# Altium schematic symbol library SCH - DRIVER - LED - TI TPS61100_PW_20.SchLib: 1 symbol
Pins are listed as number, name and electrical type; pins without a type are passive.

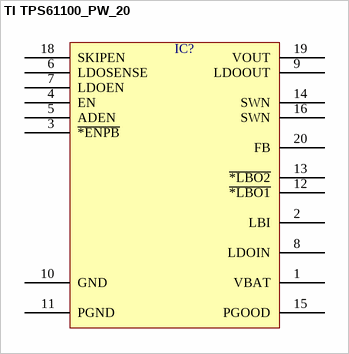
[diagram p0: symbol TI TPS61100_PW_20]

## TI TPS61100_PW_20
designator IC?  (value not drawn)
pins: 1 VBAT, 2 LBI, 3 ~{*ENPB}, 4 EN, 5 ADEN, 6 LDOSENSE, 7 LDOEN, 8 LDOIN, 9 LDOOUT, 10 GND, 11 PGND, 12 ~{*LBO1}, 13 ~{*LBO2}, 14 SWN, 15 PGOOD, 16 SWN, 18 SKIPEN, 19 VOUT, 20 FB